# Altium footprint library S1M Series.PcbLib: 1 footprints
Each footprint in its own frame and in the unit in brackets; x right, y up, seen from the top. Pads: shape width x height; smd on the part's side, far side on the other; paste and mask are expansions set on the pad; w line width, h text height; cw(c..) or ccw(c..) is an arc to the next point about the centre after c.
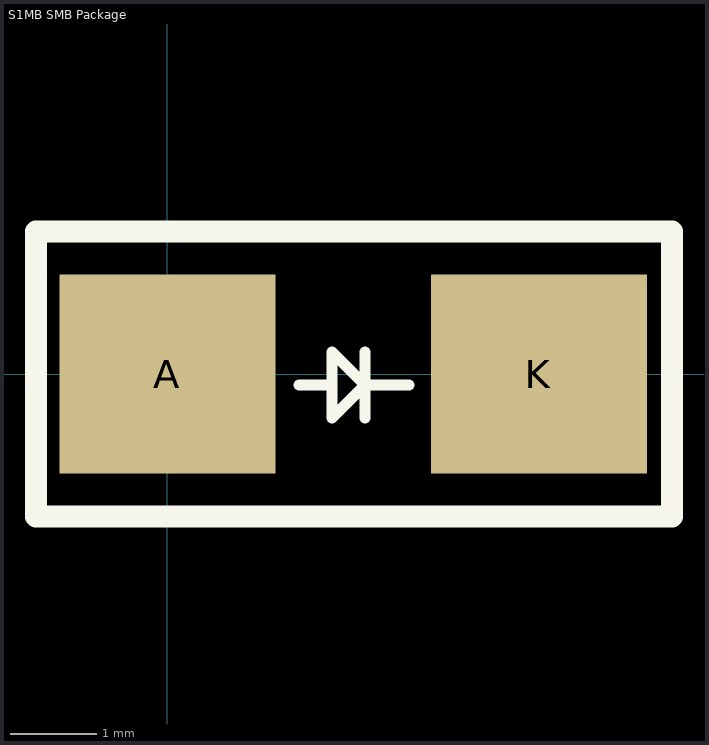
[diagram p0: the footprint, top view; thin cyan lines are the x and y axes]

## S1MB SMB Package [mm] "Diode Standard 1000V 1A Surface Mount SMB"
pads (2):
  rect 2.5x2.3 smd: A(0,0) K(4.3,0)
Top Overlay:
  lines w0.127: 1.524,-0.127 1.905,-0.127 ; 2.286,-0.508 2.286,0.254 ; 2.794,-0.127 2.286,-0.127 ; 1.905,-0.127 1.905,0.254 2.286,-0.127 ; 1.905,-0.127 1.905,-0.508 2.286,-0.127
  lines w0.254: -1.524,-1.651 5.842,-1.651 5.842,1.651 -1.524,1.651 -1.524,-1.651
3D body "SMD 1N4007.step": height 2.44, standoff 0.01, extent -0.55,-1.555 4.75,1.555